# EAGLE library part WS2811 (library blinkinlabs)
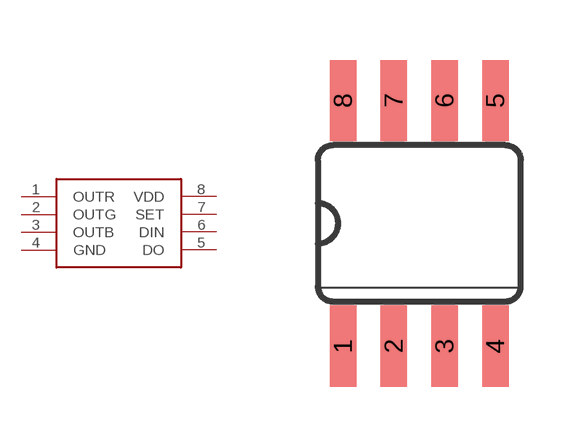
[diagram p9: symbol with the pads of SO08; footprint SO08]

Designator prefix -

## WS2811  [SO08]
1  OUTR
2  OUTG
3  OUTB
4  GND
5  DO
6  DIN
7  SET
8  VDD

## Footprint SO08 (pad centres in mm)
Small Outline package 8 150 mil
smd 0.66 x 2.032: 1 -1.905,-3.073; 2 -0.635,-3.073; 3 0.635,-3.073; 4 1.905,-3.073; 5 1.905,3.073; 6 0.635,3.073; 7 -0.635,3.073; 8 -1.905,3.073